# Altium footprint library aiskylab-06IC-02Memory.PcbLib: 17 footprints (part 1 of 2)
Each footprint in its own frame and in the unit in brackets; x right, y up, seen from the top. Pads: shape width x height; smd on the part's side, far side on the other; paste and mask are expansions set on the pad; w line width, h text height; cw(c..) or ccw(c..) is an arc to the next point about the centre after c.
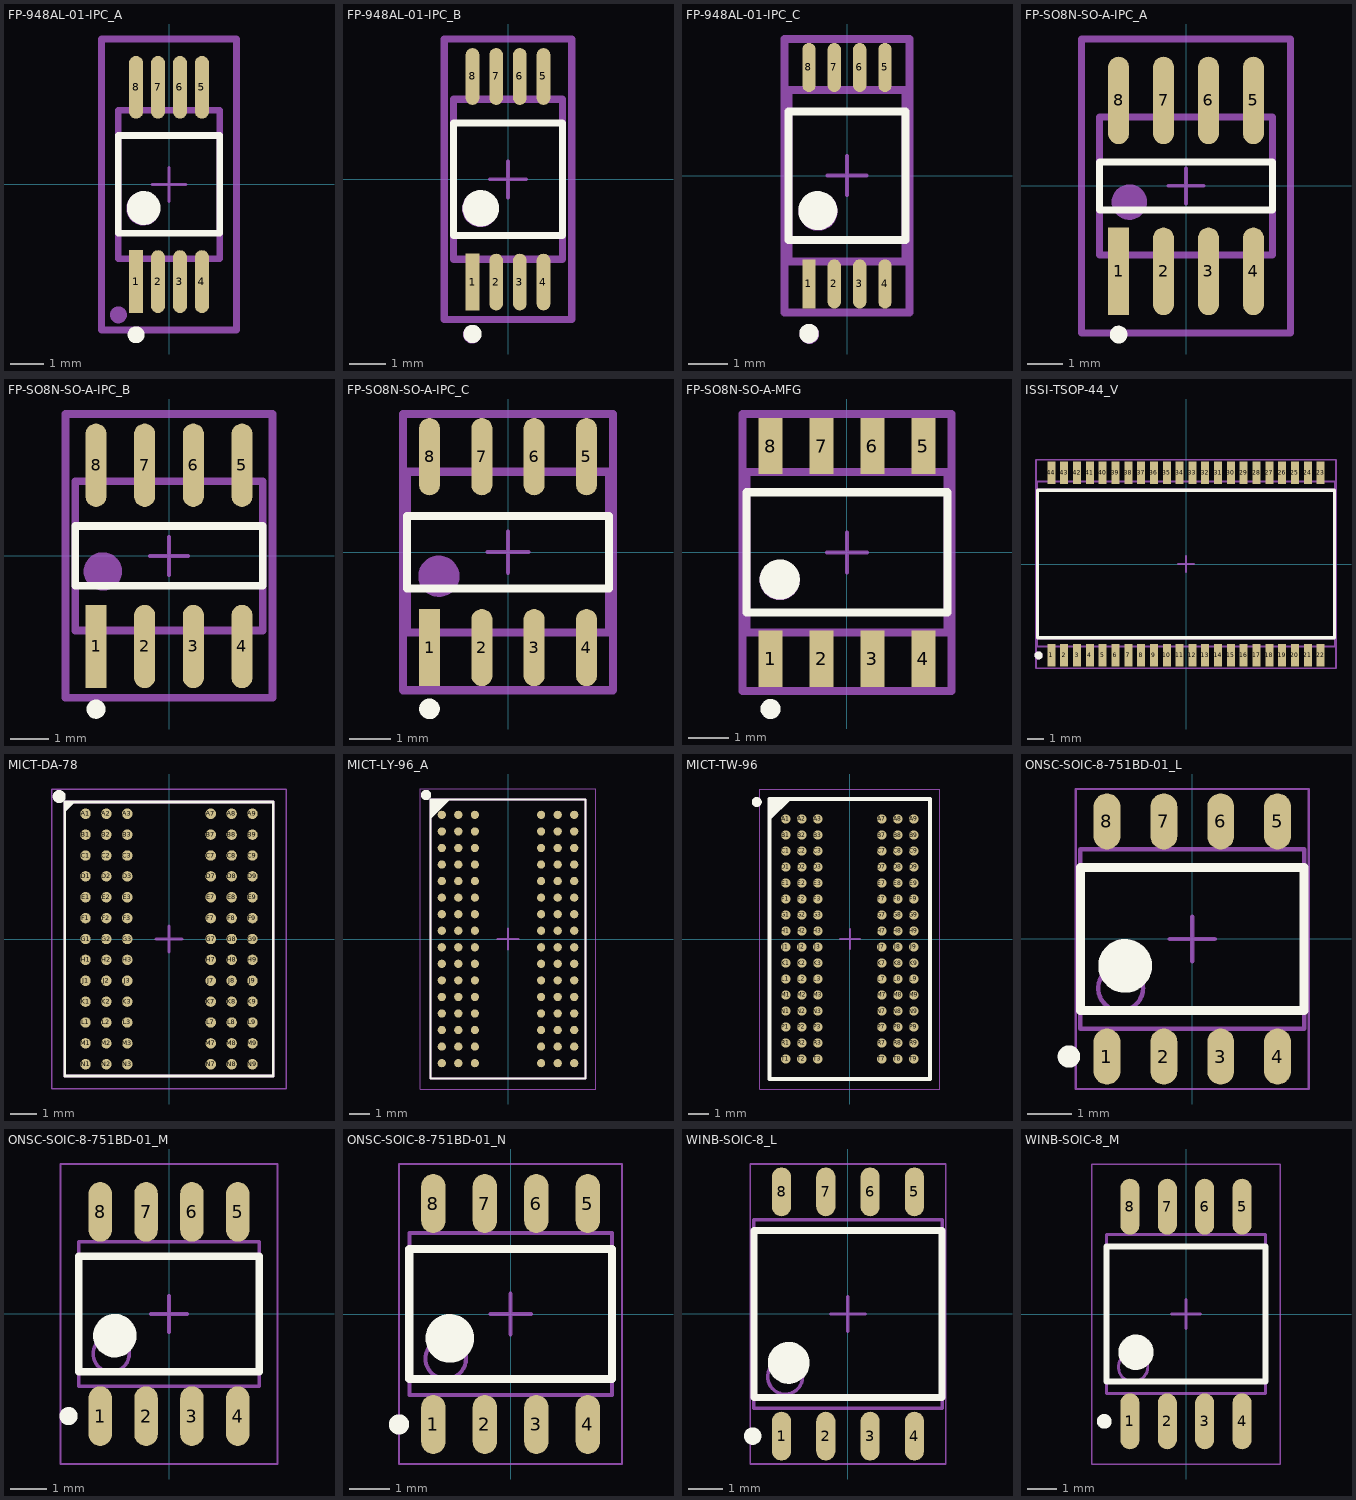
[diagram p0: the footprints below, top view; thin cyan lines are the x and y axes]

## FP-948AL-01-IPC_A [mm]
pads (8):
  rect 0.421x1.859 smd paste+0 mask+0: 1(-0.975,-2.877)
  rrect100% 0.421x1.859 smd paste+0 mask+0: 2(-0.325,-2.877) 3(0.325,-2.877) 4(0.975,-2.877) 5(0.975,2.877) 6(0.325,2.877) 7(-0.325,2.877) 8(-0.975,2.877)
Top Overlay:
  circle w0.25: c-0.975,-4.45 r0.125
  circle w0.5: c-0.75,-0.697 r0.25
  lines w0.2: -1.5,-1.447 1.5,-1.447 1.5,1.447 -1.5,1.447 -1.5,-1.447
Top Designator:
  text ".Designator" at -7.618,-0.655 h1.52
Top Assembly:
  circle w0.25: c-1.499,-3.861 r0.125
  circle w0.5: c-0.762,-0.711 r0.25
  lines w0.2: -2,-4.306 2,-4.306 2,4.306 -2,4.306 -2,-4.306
Top Component Center:
  lines w0.1: -0.5,0 0.5,0 ; 0,-0.5 0,0.5
Top Component Outline:
  lines w0.2: -2,-4.306 2,-4.306 2,4.306 -2,4.306 -2,-4.306 ; -1.5,-2.2 1.5,-2.2 1.5,2.2 -1.5,2.2 -1.5,-2.2
3D body "IC_ON_Semiconductor_CAT24C256YI-GT3_eec.STEP": height 1.2, standoff 0, extent -1.5,-3.207 1.5,3.208

## FP-948AL-01-IPC_B [mm]
pads (8):
  rect 0.381x1.559 smd paste+0 mask+0: 1(-0.975,-2.827)
  rrect100% 0.381x1.559 smd paste+0 mask+0: 2(-0.325,-2.827) 3(0.325,-2.827) 4(0.975,-2.827) 5(0.975,2.827) 6(0.325,2.827) 7(-0.325,2.827) 8(-0.975,2.827)
Top Overlay:
  circle w0.25: c-0.975,-4.25 r0.125
  circle w0.5: c-0.75,-0.797 r0.25
  lines w0.2: -1.5,-1.547 1.5,-1.547 1.5,1.547 -1.5,1.547 -1.5,-1.547
Top Designator:
  text ".Designator" at -7.618,-0.788 h1.52
Top Assembly:
  circle w0.25: c-0.987,-4.266 r0.125
  circle w0.5: c-0.762,-0.813 r0.25
  lines w0.2: -1.75,-3.856 -1.75,3.856 1.75,3.856 1.75,-3.856 -1.75,-3.856
Top Component Center:
  lines w0.1: -0.5,0 0.5,0 ; 0,-0.5 0,0.5
Top Component Outline:
  lines w0.2: -1.75,-3.856 -1.75,3.856 1.75,3.856 1.75,-3.856 -1.75,-3.856 ; -1.5,-2.2 -1.5,2.2 1.5,2.2 1.5,-2.2 -1.5,-2.2
3D body "IC_ON_Semiconductor_CAT24C256YI-GT3_eec.STEP": height 1.2, standoff 0, extent -1.5,-3.207 1.5,3.208

## FP-948AL-01-IPC_C [mm]
pads (8):
  rect 0.341x1.259 smd paste+0 mask+0: 1(-0.975,-2.777)
  rrect100% 0.341x1.259 smd paste+0 mask+0: 2(-0.325,-2.777) 3(0.325,-2.777) 4(0.975,-2.777) 5(0.975,2.777) 6(0.325,2.777) 7(-0.325,2.777) 8(-0.975,2.777)
Top Overlay:
  circle w0.5: c-0.75,-0.897 r0.25
  circle w0.25: c-0.975,-4.05 r0.125
  lines w0.2: -1.5,-1.647 -1.5,1.647 1.5,1.647 1.5,-1.647 -1.5,-1.647
Top Designator:
  text ".Designator" at -7.618,-0.862 h1.52
Top Assembly:
  circle w0.5: c-0.74,-0.911 r0.25
  circle w0.25: c-0.965,-4.064 r0.125
  lines w0.2: -1.6,-3.506 1.6,-3.506 1.6,3.506 -1.6,3.506 -1.6,-3.506
Top Component Center:
  lines w0.1: -0.5,0 0.5,0 ; 0,-0.5 0,0.5
Top Component Outline:
  lines w0.2: -1.6,-3.506 1.6,-3.506 1.6,3.506 -1.6,3.506 -1.6,-3.506 ; -1.5,-2.2 1.5,-2.2 1.5,2.2 -1.5,2.2 -1.5,-2.2
3D body "IC_ON_Semiconductor_CAT24C256YI-GT3_eec.STEP": height 1.2, standoff 0, extent -1.5,-3.207 1.5,3.208

## FP-SO8N-SO-A-IPC_A [mm]
pads (8):
  rect 0.592x2.474 smd paste+0 mask+0: 1(-1.905,-2.416)
  rrect100% 0.592x2.474 smd paste+0 mask+0: 2(-0.635,-2.416) 3(0.635,-2.416) 4(1.905,-2.416) 5(1.905,2.416) 6(0.635,2.416) 7(-0.635,2.416) 8(-1.905,2.416)
Top Overlay:
  circle w0.25: c-1.905,-4.203 r0.125
  lines w0.2: -2.45,-0.679 2.45,-0.679 2.45,0.679 -2.45,0.679 -2.45,-0.679
Top Designator:
  text ".Designator" at -7.618,-0.608 h1.52
Top Assembly:
  circle w0.5: c-1.6,-0.457 r0.25
  lines w0.2: -2.95,-4.153 -2.95,4.153 2.95,4.153 2.95,-4.153 -2.95,-4.153
Top Component Center:
  lines w0.1: -0.5,0 0.5,0 ; 0,-0.5 0,0.5
Top Component Outline:
  lines w0.2: -2.95,-4.153 -2.95,4.153 2.95,4.153 2.95,-4.153 -2.95,-4.153 ; -2.45,-1.95 -2.45,1.95 2.45,1.95 2.45,-1.95 -2.45,-1.95
3D body "IC_STMicroelectronics_M24C02-WMN6TP_eec.STEP": height 1.75, standoff 0, extent -2.45,-3 2.45,3

## FP-SO8N-SO-A-IPC_B [mm]
pads (8):
  rect 0.552x2.174 smd paste+0 mask+0: 1(-1.905,-2.366)
  rrect100% 0.552x2.174 smd paste+0 mask+0: 2(-0.635,-2.366) 3(0.635,-2.366) 4(1.905,-2.366) 5(1.905,2.366) 6(0.635,2.366) 7(-0.635,2.366) 8(-1.905,2.366)
Top Overlay:
  circle w0.25: c-1.905,-4.003 r0.125
  lines w0.2: -2.45,-0.779 -2.45,0.779 2.45,0.779 2.45,-0.779 -2.45,-0.779
Top Designator:
  text ".Designator" at -7.618,-0.733 h1.52
Top Assembly:
  circle w0.5: c-1.727,-0.406 r0.25
  lines w0.2: -2.7,-3.703 2.7,-3.703 2.7,3.703 -2.7,3.703 -2.7,-3.703
Top Component Center:
  lines w0.1: -0.5,0 0.5,0 ; 0,-0.5 0,0.5
Top Component Outline:
  lines w0.2: -2.7,-3.703 2.7,-3.703 2.7,3.703 -2.7,3.703 -2.7,-3.703 ; -2.45,-1.95 2.45,-1.95 2.45,1.95 -2.45,1.95 -2.45,-1.95
3D body "IC_STMicroelectronics_M24C02-WMN6TP_eec.STEP": height 1.75, standoff 0, extent -2.45,-3 2.45,3

## FP-SO8N-SO-A-IPC_C [mm]
pads (8):
  rect 0.512x1.874 smd paste+0 mask+0: 1(-1.905,-2.316)
  rrect100% 0.512x1.874 smd paste+0 mask+0: 2(-0.635,-2.316) 3(0.635,-2.316) 4(1.905,-2.316) 5(1.905,2.316) 6(0.635,2.316) 7(-0.635,2.316) 8(-1.905,2.316)
Top Overlay:
  circle w0.25: c-1.905,-3.803 r0.125
  lines w0.2: -2.45,-0.879 -2.45,0.879 2.45,0.879 2.45,-0.879 -2.45,-0.879
Top Designator:
  text ".Designator" at -7.618,-0.808 h1.52
Top Assembly:
  circle w0.5: c-1.676,-0.584 r0.25
  lines w0.2: -2.55,-3.353 2.55,-3.353 2.55,3.353 -2.55,3.353 -2.55,-3.353
Top Component Center:
  lines w0.1: -0.5,0 0.5,0 ; 0,-0.5 0,0.5
Top Component Outline:
  lines w0.2: -2.55,-3.353 2.55,-3.353 2.55,3.353 -2.55,3.353 -2.55,-3.353 ; -2.45,-1.95 2.45,-1.95 2.45,1.95 -2.45,1.95 -2.45,-1.95
3D body "IC_STMicroelectronics_M24C02-WMN6TP_eec.STEP": height 1.75, standoff 0, extent -2.45,-3 2.45,3

## FP-SO8N-SO-A-MFG [mm]
pads (8):
  rect 0.6x1.4 smd paste+0 mask+0: 1(-1.905,-2.65) 2(-0.635,-2.65) 3(0.635,-2.65) 4(1.905,-2.65) 5(1.905,2.65) 6(0.635,2.65) 7(-0.635,2.65) 8(-1.905,2.65)
Top Overlay:
  circle w0.25: c-1.905,-3.9 r0.125
  circle w0.5: c-1.675,-0.675 r0.25
  lines w0.2: -2.5,-1.5 -2.5,1.5 2.5,1.5 2.5,-1.5 -2.5,-1.5
Top Designator:
  text ".Designator" at -7.618,-0.808 h1.52
Top Assembly:
  circle w0.5: c-1.676,-0.686 r0.25
  lines w0.2: -2.6,-3.45 -2.6,3.45 2.6,3.45 2.6,-3.45 -2.6,-3.45
Top Component Center:
  lines w0.1: -0.5,0 0.5,0 ; 0,-0.5 0,0.5
Top Component Outline:
  lines w0.2: -2.6,-3.45 -2.6,3.45 2.6,3.45 2.6,-3.45 -2.6,-3.45 ; -2.5,-2 -2.5,2 2.5,2 2.5,-2 -2.5,-2
3D body "IC_STMicroelectronics_M24C02-WMN6TP_eec.STEP": height 1.75, standoff 0, extent -2.45,-3 2.45,3

## ISSI-TSOP-44_V [mm] "SOP, 44-Leads, Body 18.54x10.29mm, Pitch 0.8mm"
height 1.2
pads (44):
  rect 0.5x1.4 smd: 1(-8.4,-5.7) 2(-7.6,-5.7) 3(-6.8,-5.7) 4(-6,-5.7) 5(-5.2,-5.7) 6(-4.4,-5.7) 7(-3.6,-5.7) 8(-2.8,-5.7) 9(-2,-5.7) 10(-1.2,-5.7) 11(-0.4,-5.7) 12(0.4,-5.7) 13(1.2,-5.7) 14(2,-5.7) 15(2.8,-5.7) 16(3.6,-5.7) 17(4.4,-5.7) 18(5.2,-5.7) 19(6,-5.7) 20(6.8,-5.7) 21(7.6,-5.7) 22(8.4,-5.7) 23(8.4,5.7) 24(7.6,5.7) 25(6.8,5.7) 26(6,5.7) 27(5.2,5.7) 28(4.4,5.7) 29(3.6,5.7) 30(2.8,5.7) 31(2,5.7) 32(1.2,5.7) 33(0.4,5.7) 34(-0.4,5.7) 35(-1.2,5.7) 36(-2,5.7) 37(-2.8,5.7) 38(-3.6,5.7) 39(-4.4,5.7) 40(-5.2,5.7) 41(-6,5.7) 42(-6.8,5.7) 43(-7.6,5.7) 44(-8.4,5.7)
Top Overlay:
  circle w0.25: c-9.2,-5.7 r0.125
  lines w0.2: -9.27,-4.6 9.27,-4.6 9.27,4.6 -9.27,4.6 -9.27,-4.6
Top Designator:
  text ".Designator" at -7.638,-0.508 h1.52
Top Assembly:
  circle w0.25: c-9.2,-5.7 r0.125
  lines w0.2: -9.27,-4.6 9.27,-4.6 9.27,4.6 -9.27,4.6 -9.27,-4.6
Top Component Center:
  lines w0.1: -0.5,0 0.5,0 ; 0,-0.5 0,0.5
Top Component Outline:
  lines w0.1: -9.36,-6.5 9.36,-6.5 9.36,6.5 -9.36,6.5 -9.36,-6.5
Top 3D Body:
  lines w0.1: -9.27,-5.145 9.27,-5.145 9.27,5.145 -9.27,5.145 -9.27,-5.145
3D body: height 1.2, standoff 0.05, extent -9.27,-5.145 9.27,5.145

## MICT-DA-78 [mm] "BGA, 78-Balls, Body 8x10.5mm, Pitch 0.8mm"
pads (78):
  round 0.4 smd: A1(-3.2,4.8) A2(-2.4,4.8) A3(-1.6,4.8) A7(1.6,4.8) A8(2.4,4.8) A9(3.2,4.8) B1(-3.2,4) B2(-2.4,4) B3(-1.6,4) B7(1.6,4) B8(2.4,4) B9(3.2,4) C1(-3.2,3.2) C2(-2.4,3.2) C3(-1.6,3.2) C7(1.6,3.2) C8(2.4,3.2) C9(3.2,3.2) D1(-3.2,2.4) D2(-2.4,2.4) D3(-1.6,2.4) D7(1.6,2.4) D8(2.4,2.4) D9(3.2,2.4) E1(-3.2,1.6) E2(-2.4,1.6) E3(-1.6,1.6) E7(1.6,1.6) E8(2.4,1.6) E9(3.2,1.6) F1(-3.2,0.8) F2(-2.4,0.8) F3(-1.6,0.8) F7(1.6,0.8) F8(2.4,0.8) F9(3.2,0.8) G1(-3.2,0) G2(-2.4,0) G3(-1.6,0) G7(1.6,0) G8(2.4,0) G9(3.2,0) H1(-3.2,-0.8) H2(-2.4,-0.8) H3(-1.6,-0.8) H7(1.6,-0.8) H8(2.4,-0.8) H9(3.2,-0.8) J1(-3.2,-1.6) J2(-2.4,-1.6) J3(-1.6,-1.6) J7(1.6,-1.6) J8(2.4,-1.6) J9(3.2,-1.6) K1(-3.2,-2.4) K2(-2.4,-2.4) K3(-1.6,-2.4) K7(1.6,-2.4) K8(2.4,-2.4) K9(3.2,-2.4) L1(-3.2,-3.2) L2(-2.4,-3.2) L3(-1.6,-3.2) L7(1.6,-3.2) L8(2.4,-3.2) L9(3.2,-3.2) M1(-3.2,-4) M2(-2.4,-4) M3(-1.6,-4) M7(1.6,-4) M8(2.4,-4) M9(3.2,-4) N1(-3.2,-4.8) N2(-2.4,-4.8) N3(-1.6,-4.8) N7(1.6,-4.8) N8(2.4,-4.8) N9(3.2,-4.8)
Top Overlay:
  circle w0.25: c-4.21,5.46 r0.125
  region: -3.615,5.25 -4,4.865 -4,5.25
  lines w0.1: -4,-5.25 -4,5.25 4,5.25 4,-5.25 -4,-5.25
Top Designator:
  text ".Designator" at -7.618,-0.508 h1.52
Top Assembly:
  lines w0.1: -4,-5.25 -4,5.25 4,5.25 4,-5.25 -4,-5.25
Top Component Center:
  lines w0.1: -0.5,0 0.5,0 ; 0,-0.5 0,0.5
Top Component Outline:
  lines w0.05: -4.5,-5.75 -4.5,5.75 4.5,5.75 4.5,-5.75 -4.5,-5.75
Top 3D Body:
  lines w0.1: -4,-5.25 -4,5.25 4,5.25 4,-5.25 -4,-5.25
3D body: height 1, standoff 0.3, extent -4,-5.25 4,5.25
3D body: height 1.05, standoff 0.5, extent -3.823,4.048 -2.827,5.046
3D body: height 0.4, standoff 0, extent 3.001,4.603 3.4,4.997
3D body: height 0.4, standoff 0, extent 1.401,4.603 1.8,4.997
3D body: height 0.4, standoff 0, extent 2.201,4.603 2.6,4.997
3D body: height 0.4, standoff 0, extent -1.799,-4.997 -1.4,-4.603
3D body: height 0.4, standoff 0, extent -3.399,-4.997 -3,-4.603
3D body: height 0.4, standoff 0, extent -2.599,-4.997 -2.2,-4.603
3D body: height 0.4, standoff 0, extent -1.799,-4.197 -1.4,-3.803
3D body: height 0.4, standoff 0, extent -3.399,-4.197 -3,-3.803
3D body: height 0.4, standoff 0, extent -2.599,-4.197 -2.2,-3.803
3D body: height 0.4, standoff 0, extent -1.799,-3.397 -1.4,-3.003
3D body: height 0.4, standoff 0, extent -3.399,-3.397 -3,-3.003
3D body: height 0.4, standoff 0, extent -2.599,-3.397 -2.2,-3.003
3D body: height 0.4, standoff 0, extent -1.799,-2.597 -1.4,-2.203
3D body: height 0.4, standoff 0, extent -3.399,-2.597 -3,-2.203
3D body: height 0.4, standoff 0, extent -2.599,-2.597 -2.2,-2.203
3D body: height 0.4, standoff 0, extent -1.799,-1.797 -1.4,-1.403
3D body: height 0.4, standoff 0, extent -3.399,-1.797 -3,-1.403
3D body: height 0.4, standoff 0, extent -2.599,-1.797 -2.2,-1.403
3D body: height 0.4, standoff 0, extent -1.799,-0.997 -1.4,-0.603
3D body: height 0.4, standoff 0, extent -3.399,-0.997 -3,-0.603
3D body: height 0.4, standoff 0, extent -2.599,-0.997 -2.2,-0.603
3D body: height 0.4, standoff 0, extent -1.799,-0.197 -1.4,0.197
3D body: height 0.4, standoff 0, extent -3.399,-0.197 -3,0.197
3D body: height 0.4, standoff 0, extent -2.599,-0.197 -2.2,0.197
3D body: height 0.4, standoff 0, extent -1.799,0.603 -1.4,0.997
3D body: height 0.4, standoff 0, extent -3.399,0.603 -3,0.997
3D body: height 0.4, standoff 0, extent -2.599,0.603 -2.2,0.997
3D body: height 0.4, standoff 0, extent -1.799,1.403 -1.4,1.797
3D body: height 0.4, standoff 0, extent -3.399,1.403 -3,1.797
3D body: height 0.4, standoff 0, extent -2.599,1.403 -2.2,1.797
3D body: height 0.4, standoff 0, extent -1.799,2.203 -1.4,2.597
3D body: height 0.4, standoff 0, extent -3.399,2.203 -3,2.597
3D body: height 0.4, standoff 0, extent -2.599,2.203 -2.2,2.597
3D body: height 0.4, standoff 0, extent -1.799,3.003 -1.4,3.397
3D body: height 0.4, standoff 0, extent -3.399,3.003 -3,3.397
3D body: height 0.4, standoff 0, extent -2.599,3.003 -2.2,3.397
3D body: height 0.4, standoff 0, extent -1.799,3.803 -1.4,4.197
3D body: height 0.4, standoff 0, extent -3.399,3.803 -3,4.197
3D body: height 0.4, standoff 0, extent -2.599,3.803 -2.2,4.197
3D body: height 0.4, standoff 0, extent -1.799,4.603 -1.4,4.997
3D body: height 0.4, standoff 0, extent -3.399,4.603 -3,4.997
3D body: height 0.4, standoff 0, extent -2.599,4.603 -2.2,4.997
3D body: height 0.4, standoff 0, extent 3.001,-4.997 3.4,-4.603
3D body: height 0.4, standoff 0, extent 1.401,-4.997 1.8,-4.603
3D body: height 0.4, standoff 0, extent 2.201,-4.997 2.6,-4.603
3D body: height 0.4, standoff 0, extent 3.001,-4.197 3.4,-3.803
3D body: height 0.4, standoff 0, extent 1.401,-4.197 1.8,-3.803
3D body: height 0.4, standoff 0, extent 2.201,-4.197 2.6,-3.803
3D body: height 0.4, standoff 0, extent 3.001,-3.397 3.4,-3.003
3D body: height 0.4, standoff 0, extent 1.401,-3.397 1.8,-3.003
3D body: height 0.4, standoff 0, extent 2.201,-3.397 2.6,-3.003
3D body: height 0.4, standoff 0, extent 3.001,-2.597 3.4,-2.203
3D body: height 0.4, standoff 0, extent 1.401,-2.597 1.8,-2.203
3D body: height 0.4, standoff 0, extent 2.201,-2.597 2.6,-2.203
3D body: height 0.4, standoff 0, extent 3.001,-1.797 3.4,-1.403
3D body: height 0.4, standoff 0, extent 1.401,-1.797 1.8,-1.403
3D body: height 0.4, standoff 0, extent 2.201,-1.797 2.6,-1.403
3D body: height 0.4, standoff 0, extent 3.001,-0.997 3.4,-0.603
3D body: height 0.4, standoff 0, extent 1.401,-0.997 1.8,-0.603
3D body: height 0.4, standoff 0, extent 2.201,-0.997 2.6,-0.603
3D body: height 0.4, standoff 0, extent 3.001,-0.197 3.4,0.197
3D body: height 0.4, standoff 0, extent 1.401,-0.197 1.8,0.197
3D body: height 0.4, standoff 0, extent 2.201,-0.197 2.6,0.197
3D body: height 0.4, standoff 0, extent 3.001,0.603 3.4,0.997
3D body: height 0.4, standoff 0, extent 1.401,0.603 1.8,0.997
3D body: height 0.4, standoff 0, extent 2.201,0.603 2.6,0.997
3D body: height 0.4, standoff 0, extent 3.001,1.403 3.4,1.797
3D body: height 0.4, standoff 0, extent 1.401,1.403 1.8,1.797
3D body: height 0.4, standoff 0, extent 2.201,1.403 2.6,1.797
3D body: height 0.4, standoff 0, extent 3.001,2.203 3.4,2.597
3D body: height 0.4, standoff 0, extent 1.401,2.203 1.8,2.597
3D body: height 0.4, standoff 0, extent 2.201,2.203 2.6,2.597
3D body: height 0.4, standoff 0, extent 3.001,3.003 3.4,3.397
3D body: height 0.4, standoff 0, extent 1.401,3.003 1.8,3.397
3D body: height 0.4, standoff 0, extent 2.201,3.003 2.6,3.397
3D body: height 0.4, standoff 0, extent 3.001,3.803 3.4,4.197
3D body: height 0.4, standoff 0, extent 1.401,3.803 1.8,4.197
3D body: height 0.4, standoff 0, extent 2.201,3.803 2.6,4.197

## MICT-LY-96_A [mm]
pads (96):
  round 0.4 smd mask-0.025: A1(-3.2,6) A2(-2.4,6) A3(-1.6,6) A7(1.6,6) A8(2.4,6) A9(3.2,6) B1(-3.2,5.2) B2(-2.4,5.2) B3(-1.6,5.2) B7(1.6,5.2) B8(2.4,5.2) B9(3.2,5.2) C1(-3.2,4.4) C2(-2.4,4.4) C3(-1.6,4.4) C7(1.6,4.4) C8(2.4,4.4) C9(3.2,4.4) D1(-3.2,3.6) D2(-2.4,3.6) D3(-1.6,3.6) D7(1.6,3.6) D8(2.4,3.6) D9(3.2,3.6) E1(-3.2,2.8) E2(-2.4,2.8) E3(-1.6,2.8) E7(1.6,2.8) E8(2.4,2.8) E9(3.2,2.8) F1(-3.2,2) F2(-2.4,2) F3(-1.6,2) F7(1.6,2) F8(2.4,2) F9(3.2,2) G1(-3.2,1.2) G2(-2.4,1.2) G3(-1.6,1.2) G7(1.6,1.2) G8(2.4,1.2) G9(3.2,1.2) H1(-3.2,0.4) H2(-2.4,0.4) H3(-1.6,0.4) H7(1.6,0.4) H8(2.4,0.4) H9(3.2,0.4) J1(-3.2,-0.4) J2(-2.4,-0.4) J3(-1.6,-0.4) J7(1.6,-0.4) J8(2.4,-0.4) J9(3.2,-0.4) K1(-3.2,-1.2) K2(-2.4,-1.2) K3(-1.6,-1.2) K7(1.6,-1.2) K8(2.4,-1.2) K9(3.2,-1.2) L1(-3.2,-2) L2(-2.4,-2) L3(-1.6,-2) L7(1.6,-2) L8(2.4,-2) L9(3.2,-2) M1(-3.2,-2.8) M2(-2.4,-2.8) M3(-1.6,-2.8) M7(1.6,-2.8) M8(2.4,-2.8) M9(3.2,-2.8) N1(-3.2,-3.6) N2(-2.4,-3.6) N3(-1.6,-3.6) N7(1.6,-3.6) N8(2.4,-3.6) N9(3.2,-3.6) P1(-3.2,-4.4) P2(-2.4,-4.4) P3(-1.6,-4.4) P7(1.6,-4.4) P8(2.4,-4.4) P9(3.2,-4.4) R1(-3.2,-5.2) R2(-2.4,-5.2) R3(-1.6,-5.2) R7(1.6,-5.2) R8(2.4,-5.2) R9(3.2,-5.2) T1(-3.2,-6) T2(-2.4,-6) T3(-1.6,-6) T7(1.6,-6) T8(2.4,-6) T9(3.2,-6)
Top Overlay:
  circle w0.25: c-3.96,6.96 r0.125
  region: -2.799,6.75 -3.75,5.799 -3.75,6.75
  lines w0.1: -3.75,-6.75 3.75,-6.75 3.75,6.75 -3.75,6.75 -3.75,-6.75
Top Designator:
  text ".Designator" at -7.618,-0.508 h1.52
Top Assembly:
  lines w0.1: -3.75,-6.75 3.75,-6.75 3.75,6.75 -3.75,6.75 -3.75,-6.75
Top Component Center:
  lines w0.1: -0.5,0 0.5,0 ; 0,-0.5 0,0.5
Top Component Outline:
  lines w0.05: -4.25,-7.25 4.25,-7.25 4.25,7.25 -4.25,7.25 -4.25,-7.25
Top 3D Body:
  lines w0.1: -3.75,-6.75 3.75,-6.75 3.75,6.75 -3.75,6.75 -3.75,-6.75
3D body "BGA96C80P9X16_750X1350X120.step": height 1.2, standoff 0, extent -3.75,-6.75 3.75,6.75

## MICT-TW-96 [mm] "BGA, 96-Balls, Body 8x14mm, Pitch 0.8mm"
height 1.2
pads (96):
  round 0.47 smd mask-0.025: A1(-3.2,6) A2(-2.4,6) A3(-1.6,6) A7(1.6,6) A8(2.4,6) A9(3.2,6) B1(-3.2,5.2) B2(-2.4,5.2) B3(-1.6,5.2) B7(1.6,5.2) B8(2.4,5.2) B9(3.2,5.2) C1(-3.2,4.4) C2(-2.4,4.4) C3(-1.6,4.4) C7(1.6,4.4) C8(2.4,4.4) C9(3.2,4.4) D1(-3.2,3.6) D2(-2.4,3.6) D3(-1.6,3.6) D7(1.6,3.6) D8(2.4,3.6) D9(3.2,3.6) E1(-3.2,2.8) E2(-2.4,2.8) E3(-1.6,2.8) E7(1.6,2.8) E8(2.4,2.8) E9(3.2,2.8) F1(-3.2,2) F2(-2.4,2) F3(-1.6,2) F7(1.6,2) F8(2.4,2) F9(3.2,2) G1(-3.2,1.2) G2(-2.4,1.2) G3(-1.6,1.2) G7(1.6,1.2) G8(2.4,1.2) G9(3.2,1.2) H1(-3.2,0.4) H2(-2.4,0.4) H3(-1.6,0.4) H7(1.6,0.4) H8(2.4,0.4) H9(3.2,0.4) J1(-3.2,-0.4) J2(-2.4,-0.4) J3(-1.6,-0.4) J7(1.6,-0.4) J8(2.4,-0.4) J9(3.2,-0.4) K1(-3.2,-1.2) K2(-2.4,-1.2) K3(-1.6,-1.2) K7(1.6,-1.2) K8(2.4,-1.2) K9(3.2,-1.2) L1(-3.2,-2) L2(-2.4,-2) L3(-1.6,-2) L7(1.6,-2) L8(2.4,-2) L9(3.2,-2) M1(-3.2,-2.8) M2(-2.4,-2.8) M3(-1.6,-2.8) M7(1.6,-2.8) M8(2.4,-2.8) M9(3.2,-2.8) N1(-3.2,-3.6) N2(-2.4,-3.6) N3(-1.6,-3.6) N7(1.6,-3.6) N8(2.4,-3.6) N9(3.2,-3.6) P1(-3.2,-4.4) P2(-2.4,-4.4) P3(-1.6,-4.4) P7(1.6,-4.4) P8(2.4,-4.4) P9(3.2,-4.4) R1(-3.2,-5.2) R2(-2.4,-5.2) R3(-1.6,-5.2) R7(1.6,-5.2) R8(2.4,-5.2) R9(3.2,-5.2) T1(-3.2,-6) T2(-2.4,-6) T3(-1.6,-6) T7(1.6,-6) T8(2.4,-6) T9(3.2,-6)
Top Overlay:
  circle w0.25: c-4.65,6.85 r0.125
  region: -3.049,7 -4,6.049 -4,7
  lines w0.2: -4,6.049 -3.049,7 ; -4,-7 -4,7 4,7 4,-7 -4,-7
Top Assembly:
  lines w0.1: -4,-7 -4,7 4,7 4,-7 -4,-7
Top Component Center:
  lines w0.1: -0.5,0 0.5,0 ; 0,-0.5 0,0.5
Top Component Outline:
  lines w0.05: -4.5,-7.5 -4.5,7.5 4.5,7.5 4.5,-7.5 -4.5,-7.5
Top 3D Body:
  lines w0.1: -4,-7 -4,7 4,7 4,-7 -4,-7
3D body "BGA96C80P9X16_800X1400X120.step": height 1.2, standoff 0, extent -4,-7 4,7

## ONSC-SOIC-8-751BD-01_L [mm] "SOIC, 8-Leads, Body 4.90x3.90mm, Pitch 1.27mm, IPC High Density"
height 1.75
pads (8):
  oval 0.6x1.25 smd: 1(-1.905,-2.625) 2(-0.635,-2.625) 3(0.635,-2.625) 4(1.905,-2.625) 5(1.905,2.625) 6(0.635,2.625) 7(-0.635,2.625) 8(-1.905,2.625)
Top Overlay:
  circle w0.25: c-2.755,-2.625 r0.125
  circle w0.6: c-1.5,-0.6 r0.3
  lines w0.2: -2.5,-1.6 2.5,-1.6 2.5,1.6 -2.5,1.6 -2.5,-1.6
Top Designator:
  text ".Designator" at -7.808,-0.508 h1.52
Top Assembly:
  circle w0.1: c-1.6,-1.1 r0.5
  lines w0.1: -2.5,-2 2.5,-2 2.5,2 -2.5,2 -2.5,-2
Top Component Center:
  lines w0.1: -0.5,0 0.5,0 ; 0,-0.5 0,0.5
Top Component Outline:
  lines w0.05: -2.6,-3.35 2.6,-3.35 2.6,3.35 -2.6,3.35 -2.6,-3.35
3D body "SOIC127P600X175-8L.step": height 1.75, standoff 0, extent -2.5,-3 2.5,3

## ONSC-SOIC-8-751BD-01_M [mm] "SOIC, 8-Leads, Body 4.90x3.90mm, Pitch 1.27mm, IPC Low Density"
height 1.75
pads (8):
  oval 0.65x1.65 smd: 1(-1.905,-2.825) 2(-0.635,-2.825) 3(0.635,-2.825) 4(1.905,-2.825) 5(1.905,2.825) 6(0.635,2.825) 7(-0.635,2.825) 8(-1.905,2.825)
Top Overlay:
  circle w0.6: c-1.5,-0.6 r0.3
  circle w0.25: c-2.78,-2.825 r0.125
  lines w0.2: -2.5,-1.6 -2.5,1.6 2.5,1.6 2.5,-1.6 -2.5,-1.6
Top Designator:
  text ".Designator" at -7.62,-0.508 h1.52
Top Assembly:
  circle w0.1: c-1.6,-1.1 r0.5
  lines w0.1: -2.5,-2 2.5,-2 2.5,2 -2.5,2 -2.5,-2
Top Component Center:
  lines w0.1: -0.5,0 0.5,0 ; 0,-0.5 0,0.5
Top Component Outline:
  lines w0.05: -3,-4.15 3,-4.15 3,4.15 -3,4.15 -3,-4.15
3D body "SOIC127P600X175-8M.step": height 1.75, standoff 0, extent -2.5,-3 2.5,3

## ONSC-SOIC-8-751BD-01_N [mm] "SOIC, 8-Leads, Body 4.90x3.90mm, Pitch 1.27mm, IPC Medium Density"
height 1.75
pads (8):
  oval 0.6x1.45 smd: 1(-1.905,-2.725) 2(-0.635,-2.725) 3(0.635,-2.725) 4(1.905,-2.725) 5(1.905,2.725) 6(0.635,2.725) 7(-0.635,2.725) 8(-1.905,2.725)
Top Overlay:
  circle w0.25: c-2.755,-2.725 r0.125
  circle w0.6: c-1.5,-0.6 r0.3
  lines w0.2: -2.5,-1.6 2.5,-1.6 2.5,1.6 -2.5,1.6 -2.5,-1.6
Top Designator:
  text ".Designator" at -7.733,-0.508 h1.52
Bottom Value:
  circle w0.1: c-1.6,-1.1 r0.5
  lines w0.1: -2.5,-2 2.5,-2 2.5,2 -2.5,2 -2.5,-2
Bottom 3D Body:
  lines w0.05: -2.75,-3.7 2.75,-3.7 2.75,3.7 -2.75,3.7 -2.75,-3.7
  lines w0.1: -0.5,0 0.5,0 ; 0,-0.5 0,0.5
3D body "SOIC127P600X175-8N.step": height 1.75, standoff 0, extent -2.5,-3 2.5,3

## WINB-SOIC-8_L [mm] "SOIC, 8-Leads, Body 5.4x5.4mm, Pitch 1.27mm, IPC High Density"
height 2.16
pads (8):
  oval 0.55x1.4 smd: 1(-1.905,-3.5) 2(-0.635,-3.5) 3(0.635,-3.5) 4(1.905,-3.5) 5(1.905,3.5) 6(0.635,3.5) 7(-0.635,3.5) 8(-1.905,3.5)
Top Overlay:
  circle w0.25: c-2.73,-3.5 r0.125
  circle w0.6: c-1.7,-1.4 r0.3
  lines w0.2: -2.7,-2.4 2.7,-2.4 2.7,2.4 -2.7,2.4 -2.7,-2.4
Top Designator:
  text ".Designator" at -7.695,-0.508 h1.52
Top Assembly:
  circle w0.1: c-1.8,-1.8 r0.5
  lines w0.1: -2.7,-2.7 -2.7,2.7 2.7,2.7 2.7,-2.7 -2.7,-2.7
Top Component Center:
  lines w0.1: -0.5,0 0.5,0 ; 0,-0.5 0,0.5
Top Component Outline:
  lines w0.05: -2.8,-4.3 -2.8,4.3 2.8,4.3 2.8,-4.3 -2.8,-4.3
3D body "SO-8 208mil.STEP": height 1.5, standoff 0, extent -2.642,-4.014 2.642,4.014

## WINB-SOIC-8_M [mm] "SOIC, 8-Leads, Body 5.4x5.4mm, Pitch 1.27mm, IPC Low Density"
height 2.16
pads (8):
  oval 0.65x1.9 smd: 1(-1.905,-3.65) 2(-0.635,-3.65) 3(0.635,-3.65) 4(1.905,-3.65) 5(1.905,3.65) 6(0.635,3.65) 7(-0.635,3.65) 8(-1.905,3.65)
Top Overlay:
  circle w0.6: c-1.7,-1.3 r0.3
  circle w0.25: c-2.78,-3.65 r0.125
  lines w0.2: -2.7,-2.3 -2.7,2.3 2.7,2.3 2.7,-2.3 -2.7,-2.3
Top Designator:
  text ".Designator" at -7.618,-0.508 h1.52
Top Assembly:
  circle w0.1: c-1.8,-1.8 r0.5
  lines w0.1: -2.7,-2.7 -2.7,2.7 2.7,2.7 2.7,-2.7 -2.7,-2.7
Top Component Center:
  lines w0.1: -0.5,0 0.5,0 ; 0,-0.5 0,0.5
Top Component Outline:
  lines w0.05: -3.2,-5.1 -3.2,5.1 3.2,5.1 3.2,-5.1 -3.2,-5.1
3D body "SO-8 208mil.STEP": height 1.5, standoff 0, extent -2.642,-4.014 2.642,4.014